# Altium schematic symbol library IC_Power.SchLib: 21 symbols
Pins are listed as number, name and electrical type; pins without a type are passive.

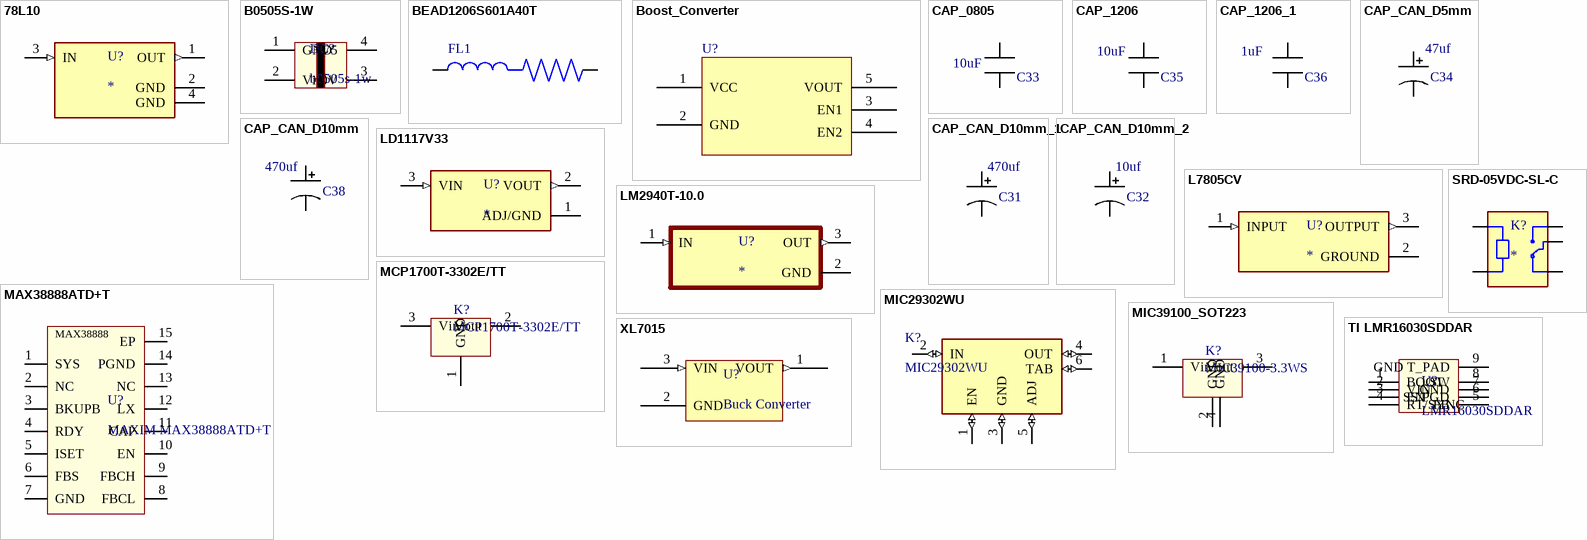
[diagram p0: symbols 78L10 to XL7015]

## 78L10
designator U?
IC REG LINEAR 10V 100MA SOT89-3; MF: Hottech Co; MP: 78L05; SnapEDA_Link: https://www.snapeda.com/parts/78L05/Hottech+Semiconductor/view-part/?ref=snap; Package: SOT-89-3 Hottech Co; Value: *; Check_prices: https://www.snapeda.com/parts/78L05/Hottech+Semiconductor/view-part/?ref=eda
footprint VREG_78L05
pins: 1 OUT (out), 2 GND (power), 3 IN (in), 4 GND (power)

## B0505S-1W
designator DC?, comment b0505s-1w
Optically Isolated DC-DC Converter; note: from link; val: b0505s-1w; sample link: https://www.lcsc.com/product-detail/C512032.html
footprint B_S-1W (SOT23, 6-Leads, Body 2.90x2.80mm, Pitch 0.95mm, IPC Medium Density)
pins: 1 GND "_", 2 Vin "_", 3 0V "_", 4 +V5 "_"

## BEAD1206S601A40T
designator FL1
MF: Murata; MP: BLM03EB500SZ1D; SnapEDA_Link: https://www.snapeda.com/parts/BLM03EB500SZ1D/Murata/view-part/?ref=snap; Package: 0603 Murata; Value: *; Check_prices: https://www.snapeda.com/parts/BLM03EB500SZ1D/Murata/view-part/?ref=eda
footprint BEAD1206S601A40T
pins: 1, 2

## Boost_Converter
designator U?, comment Boost_Conv_Module  (value not drawn)
footprint Boost_Converter
pins: 1 VCC, 2 GND, 3 EN1, 4 EN2, 5 VOUT

## CAP_0805
designator C33, comment 10uF
CAP_0805; note: any manufacturer; val: 10uF
footprint CAP_0805 (Chip Capacitor, 2-Leads, Body 2,03x1,35mm, IPC Medium Density)
pins: 1, 2

## CAP_1206
designator C35, comment 10uF
CAP_1206; note: any manufacturer; val: 10uF
footprint CAP_1206 (Chip Capacitor, 2-Leads, Body 3,05x1,56mm, IPC Medium Density)
pins: 1, 2

## CAP_1206_1
designator C36, comment 1uF
CAP_1206; note: any manufacturer; val: 1uF
footprint CAP_1206 (Chip Capacitor, 2-Leads, Body 3,05x1,56mm, IPC Medium Density)
pins: 1, 2

## CAP_CAN_D5mm
designator C34, comment 47uf
SMD Can Capacitor; 5mm Diameter; note: any manufacturer; sample link: https://www.lcsc.com/product-detail/C3357.html?s_z=n_10uF%2520SMD%2520Can%2520Capacitor%2520D5%2520RVT; val: 47uf
footprint CAP_CAN_D5MM (Aluminum Electrolytic Capacitor, Body 5,40x5,40x5,50mm, IPC Low Density)
pins: 1, 2

## CAP_CAN_D10mm
designator C38, comment 470uf
SMD Can Capacitor; 10mm Diameter; note: Original; sample link: https://www.lcsc.com/product-detail/Aluminum-Electrolytic-span-style-background-color-ff0-Capacitors-span-SMD_ROQANG-RVT2A470M1010_C335988.html; val: 470uf
footprint CAP_CAN_D10mm (Aluminum Electrolytic Capacitor, Body 5,40x5,40x5,50mm, IPC Low Density)
pins: 1, 2

## CAP_CAN_D10mm_1
designator C31, comment 470uf
SMD Can Capacitor; 10mm Diameter; note: Original; sample link: https://www.lcsc.com/product-detail/Aluminum-Electrolytic-span-style-background-color-ff0-Capacitors-span-SMD_ROQANG-RVT2A470M1010_C335988.html; val: 470uf
footprint CAP_CAN_D10mm (Aluminum Electrolytic Capacitor, Body 5,40x5,40x5,50mm, IPC Low Density)
pins: 1, 2

## CAP_CAN_D10mm_2
designator C32, comment 10uf
SMD Can Capacitor; 10mm Diameter; note: Original; sample link: https://www.lcsc.com/product-detail/Aluminum-Electrolytic-span-style-background-color-ff0-Capacitors-span-SMD_ROQANG-RVT2A470M1010_C335988.html; val: 10uf
footprint CAP_CAN_D10mm (Aluminum Electrolytic Capacitor, Body 5,40x5,40x5,50mm, IPC Low Density)
pins: 1, 2

## L7805CV
designator U?
Linear Voltage Regulator IC Positive Fixed 1 Output 1.5A TO-220; MF: STMicroelectronics; MP: L7805CV; SnapEDA_Link: https://www.snapeda.com/parts/L7805CV/STMicroelectronics/view-part/?ref=snap; Package: TO-220-3 STMicroelectronics; Value: *; Check_prices: https://www.snapeda.com/parts/L7805CV/STMicroelectronics/view-part/?ref=eda
footprint TO255P1040X460X1968-3
pins: 1 INPUT (in), 2 GROUND (power), 3 OUTPUT (out)

## LD1117V33
designator U?
Linear Voltage Regulator IC Positive Fixed 1 Output 800mA TO-220AB; MF: STMicroelectronics; MP: LD1117V33; SnapEDA_Link: https://www.snapeda.com/parts/LD1117V33/STMicroelectronics/view-part/?ref=snap; Package: TO-220-3 STMicroelectronics; Value: *; Check_prices: https://www.snapeda.com/parts/LD1117V33/STMicroelectronics/view-part/?ref=eda
footprint TO255P1020X450X1968-3
pins: 1 ADJ/GND, 2 VOUT (out), 3 VIN (in)

## LM2940T-10.0
designator U?
1-A, 26-V, high-PSRR, low-dropout voltage regulator 3-TO-220 -40 to 125; MF: Texas Instruments; MP: LM2940T-5.0; SnapEDA_Link: https://www.snapeda.com/parts/LM2940T-5.0/Texas+Instruments/view-part/?ref=snap; Package: TO-220-3 Texas Instruments; Value: *; Check_prices: https://www.snapeda.com/parts/LM2940T-5.0/Texas+Instruments/view-part/?ref=eda
footprint TO254P1054X470X1955-3
pins: 1 IN (in), 2 GND (power), 3 OUT (out)

## MAX38888ATD+T
designator U?, comment MAXIM MAX38888ATD+T
Supercapacitor 600mA TDFN-14-EP(3x3) Battery Management RoHS; note: Original; val: MAXIM MAX38888ATD+T; sample link: https://www.lcsc.com/product-detail/C2931491.html?s_z=n_max38888; datasheet: https://www.analog.com/media/en/technical-documentation/data-sheets/max38888.pdf
footprint MAX38888 (TDFN-EP Package 14 pins)
pins: 1 SYS, 2 NC, 3 BKUPB, 4 RDY, 5 ISET, 6 FBS, 7 GND, 8 FBCL, 9 FBCH, 10 EN, 11 CAP, 12 LX, 13 NC, 14 PGND, 15 EP
text: MAX38888

## MCP1700T-3302E/TT
designator K?
val: MCP1700T-3302E/TT; note: *; sample link: https://www.lcsc.com/product-detail/C39051.html?s_z=n_MCP1700T-3302E%252FTT
footprint SOT23-3 (SOT23, 3-Leads, Body 2.92x2.68mm, Pitch 0.95mm, IPC Medium Density)
pins: 1 GND, 2 Vout, 3 Vin

## MIC29302WU
designator K?
Linear Voltage Regulator IC Positive Adjustable 1 Output 3A TO-263-5; note: Original; val: MIC29302WU; sample link: https://www.lcsc.com/product-detail/C2995533.html?s_z=n_MIC29302WU
footprint MIC29302WU
pins: 1 EN (io), 2 IN (io), 3 GND (io), 4 OUT (io), 5 ADJ (io), 6 TAB (io)

## MIC39100_SOT223
designator K?, comment MIC39100-3.3WS
LDO; / 2.25V -> 16V; / 1A Max; / Fixed Output - 1.8V, 2.5V, 3.3V, 5V; note: Original; val: MIC39100-3.3WS; sample link: https://www.lcsc.com/product-detail/Linear-Voltage-Regulators-span-style-background-color-ff0-LDO-span_MaxLinear-SPX3940AM3-L-3-3-TR_C48252.html
footprint SOT223-4 (SOT223, 4-Leads, Body 6,50x7,00mm (avg), Pitch 2,30mm, IPC Medium Density)
pins: 1 Vin, 2 GND, 3 Vout, 4 GND

## SRD-05VDC-SL-C
designator K?
5V Trigger Relay Module For Arduino And Raspberry Pi 5V Trigger Relay Module For Arduino And Raspberry Pi; MF: Songle Relay; MP: SRD-05VDC-SL-C; Check_prices: https://www.snapeda.com/parts/SRD-05VDC-SL-C/Songle+Relay/view-part/?ref=eda; Value: *; Availability: Not in stock; Price: None; Package: NON STANDARD-5 Songle Relay; SnapEDA_Link: https://www.snapeda.com/parts/SRD-05VDC-SL-C/Songle+Relay/view-part/?ref=snap
footprint RELAY_SRD-05VDC-SL-C
pins: A1, A2, COM, NC, NO

## TI LMR16030SDDAR
designator U?, comment LMR16030SDDAR
60V 3A Step-Down Converter / 2.5MHz Buck Adjustable 1 SO-8-EP Voltage Regulators - DC DC Switching Regulators RoHS; note: original; val: LMR16030SDDAR; sample link: https://www.lcsc.com/product-detail/DC-DC-Converters_Texas-Instruments-LMR16030SDDAR_C136648.html
footprint SOIC8_T (SOIC, 8-Leads, Body 4.90x3.90mm, Pitch 1.27mm, Thermal Pad 3.10x2.40mm, IPC Medium Density)
pins: 1 BOOT "_", 2 VIN "_", 3 EN "_", 4 RT/SYNC "_", 5 FB "_", 6 SS/PGD "_", 7 GND "_", 8 SW "_", 9 GND T_PAD "_"

## XL7015
designator U?, comment Buck Converter
footprint XL7015
pins: 1 VOUT (out), 2 GND, 3 VIN (in)